# Altium schematic symbol library Schlib1.SchLib: 1 symbol
Pins are listed as number, name and electrical type; pins without a type are passive.

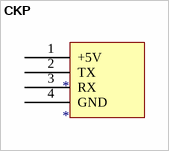
[diagram p0: symbol CKP]

## CKP
designator *
footprint CKP
pins: 1 +5V, 2 TX, 3 RX, 4 GND